# EAGLE library part ICHIGOJAM (library FaBo)
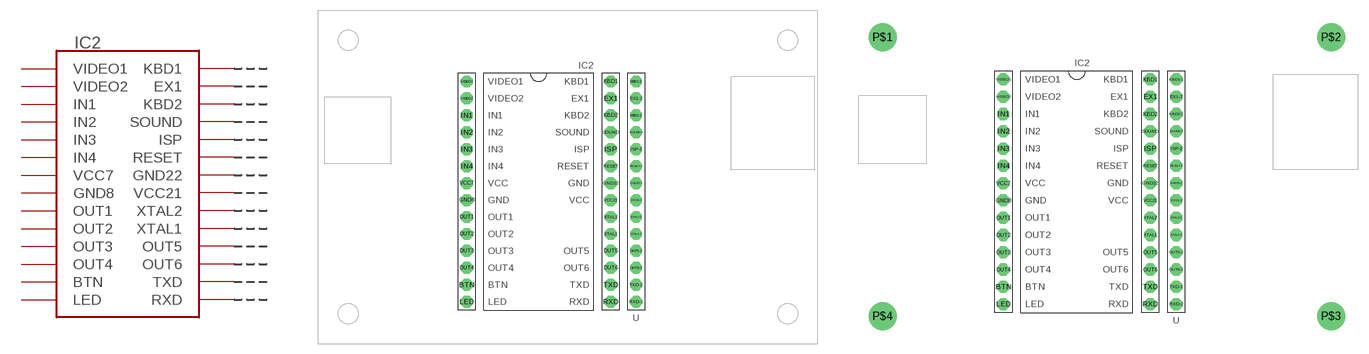
[diagram p0: symbol with the pads of ICHIGOJAM; footprints ICHIGOJAM, ICHIGOJAM_HOLE]

Designator prefix -

## ICHIGOJAM  [ICHIGOJAM]
BTN  BTN
EX1  EX1
EX1-2  EX1-2
GND8  GND8
GND22  GND22
GND22-2  GND22-2
IN1  IN1
IN2  IN2
IN3  IN3
IN4  IN4
ISP  ISP
ISP-2  ISP-2
KBD1  KBD1
KBD1-2  KBD1-2
KBD2  KBD2
KBD2-2  KBD2-2
LED  LED
OUT1  OUT1
OUT2  OUT2
OUT3  OUT3
OUT4  OUT4
OUT5  OUT5
OUT5-2  OUT5-2
OUT6  OUT6
OUT6-2  OUT6-2
RESET  RESET
RESET-2  RESET-2
RXD  RXD
RXD-2  RXD-2
SOUND  SOUND
SOUND-2  SOUND-2
TXD  TXD
TXD-2  TXD-2
VCC7  VCC7
VCC21  VCC21
VCC21-2  VCC21-2
VIDEO1  VIDEO1
VIDEO2  VIDEO2
XTAL1  XTAL1
XTAL1-2  XTAL1-2
XTAL2  XTAL2
XTAL2-2  XTAL2-2

## ICHIGOJAM-HOLE  [ICHIGOJAM_HOLE]
Pads as for ICHIGOJAM

## Footprint ICHIGOJAM (pad centres in mm)
drill 1 pad 1.778 octagon: BTN -11.43,-13.97; EX1 10.16,13.97; EX1-2 13.97,13.97; GND8 -11.43,-1.27; GND22 10.16,1.27; GND22-2 13.97,1.27; IN1 -11.43,11.43; IN2 -11.43,8.89; IN3 -11.43,6.35; IN4 -11.43,3.81; ISP 10.16,6.35; ISP-2 13.97,6.35; KBD1 10.16,16.51; KBD1-2 13.97,16.51; KBD2 10.16,11.43; KBD2-2 13.97,11.43; LED -11.43,-16.51; OUT1 -11.43,-3.81; OUT2 -11.43,-6.35; OUT3 -11.43,-8.89; OUT4 -11.43,-11.43; OUT5 10.16,-8.89; OUT5-2 13.97,-8.89; OUT6 10.16,-11.43; OUT6-2 13.97,-11.43; RESET 10.16,3.81; RESET-2 13.97,3.81; RXD 10.16,-16.51; RXD-2 13.97,-16.51; SOUND 10.16,8.89; SOUND-2 13.97,8.89; TXD 10.16,-13.97; TXD-2 13.97,-13.97; VCC7 -11.43,1.27; VCC21 10.16,-1.27; VCC21-2 13.97,-1.27; VIDEO1 -11.43,16.51; VIDEO2 -11.43,13.97; XTAL1 10.16,-6.35; XTAL1-2 13.97,-6.35; XTAL2 10.16,-3.81; XTAL2-2 13.97,-3.81

## Footprint ICHIGOJAM_HOLE (pad centres in mm)
drill 1 pad 1.778 octagon: BTN -11.43,-13.97; EX1 10.16,13.97; EX1-2 13.97,13.97; GND8 -11.43,-1.27; GND22 10.16,1.27; GND22-2 13.97,1.27; IN1 -11.43,11.43; IN2 -11.43,8.89; IN3 -11.43,6.35; IN4 -11.43,3.81; ISP 10.16,6.35; ISP-2 13.97,6.35; KBD1 10.16,16.51; KBD1-2 13.97,16.51; KBD2 10.16,11.43; KBD2-2 13.97,11.43; LED -11.43,-16.51; OUT1 -11.43,-3.81; OUT2 -11.43,-6.35; OUT3 -11.43,-8.89; OUT4 -11.43,-11.43; OUT5 10.16,-8.89; OUT5-2 13.97,-8.89; OUT6 10.16,-11.43; OUT6-2 13.97,-11.43; RESET 10.16,3.81; RESET-2 13.97,3.81; RXD 10.16,-16.51; RXD-2 13.97,-16.51; SOUND 10.16,8.89; SOUND-2 13.97,8.89; TXD 10.16,-13.97; TXD-2 13.97,-13.97; VCC7 -11.43,1.27; VCC21 10.16,-1.27; VCC21-2 13.97,-1.27; VIDEO1 -11.43,16.51; VIDEO2 -11.43,13.97; XTAL1 10.16,-6.35; XTAL1-2 13.97,-6.35; XTAL2 10.16,-3.81; XTAL2-2 13.97,-3.81
drill 3.1: P$1 -29.2,22.72; P$2 36.74,22.72; P$3 36.74,-18.28; P$4 -29.2,-18.28